# EAGLE library part AAT3681AIJS- (library PMIC)
AAT3681A 500mA USB Port or AC Adapter Li-Ion/Polymer Battery Charger Datasheet <http://www.skyworksinc.com/uploads/documents/AAT3681A_201883C.pdf>
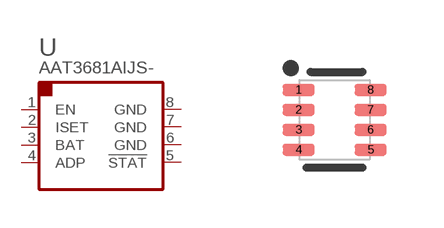
[diagram p3: symbol with the pads of SC-70-JW-8; footprint SC-70-JW-8]

Designator prefix U

## AAT3681AIJS-4.2 (MFPN: AAT3681AIJS-4.2-T1)  [SC-70-JW-8]
1  EN  in
2  ISET  pas
3  BAT  pwr
4  ADP  pwr
5  !STAT  out
6  GND  pwr
7  GND  pwr
8  GND  pwr

## Footprint SC-70-JW-8 (pad centres in mm)
SC70JW-8 / 8-TFSOJ, 8-Leads, Body 2.00x1.75mm, Pitch 0.5mm Changelog:
smd 0.8 x 0.3: 1 -0.9,0.75; 2 -0.9,0.25; 3 -0.9,-0.25; 4 -0.9,-0.75; 5 0.9,-0.75; 6 0.9,-0.25; 7 0.9,0.25; 8 0.9,0.75